# Altium footprint library Analog Devices Interface and Isolation Digital Isolators.PcbLib: 21 footprints (part 1 of 2)
Each footprint in its own frame and in the unit in brackets; x right, y up, seen from the top. Pads: shape width x height; smd on the part's side, far side on the other; paste and mask are expansions set on the pad; w line width, h text height; cw(c..) or ccw(c..) is an arc to the next point about the centre after c.
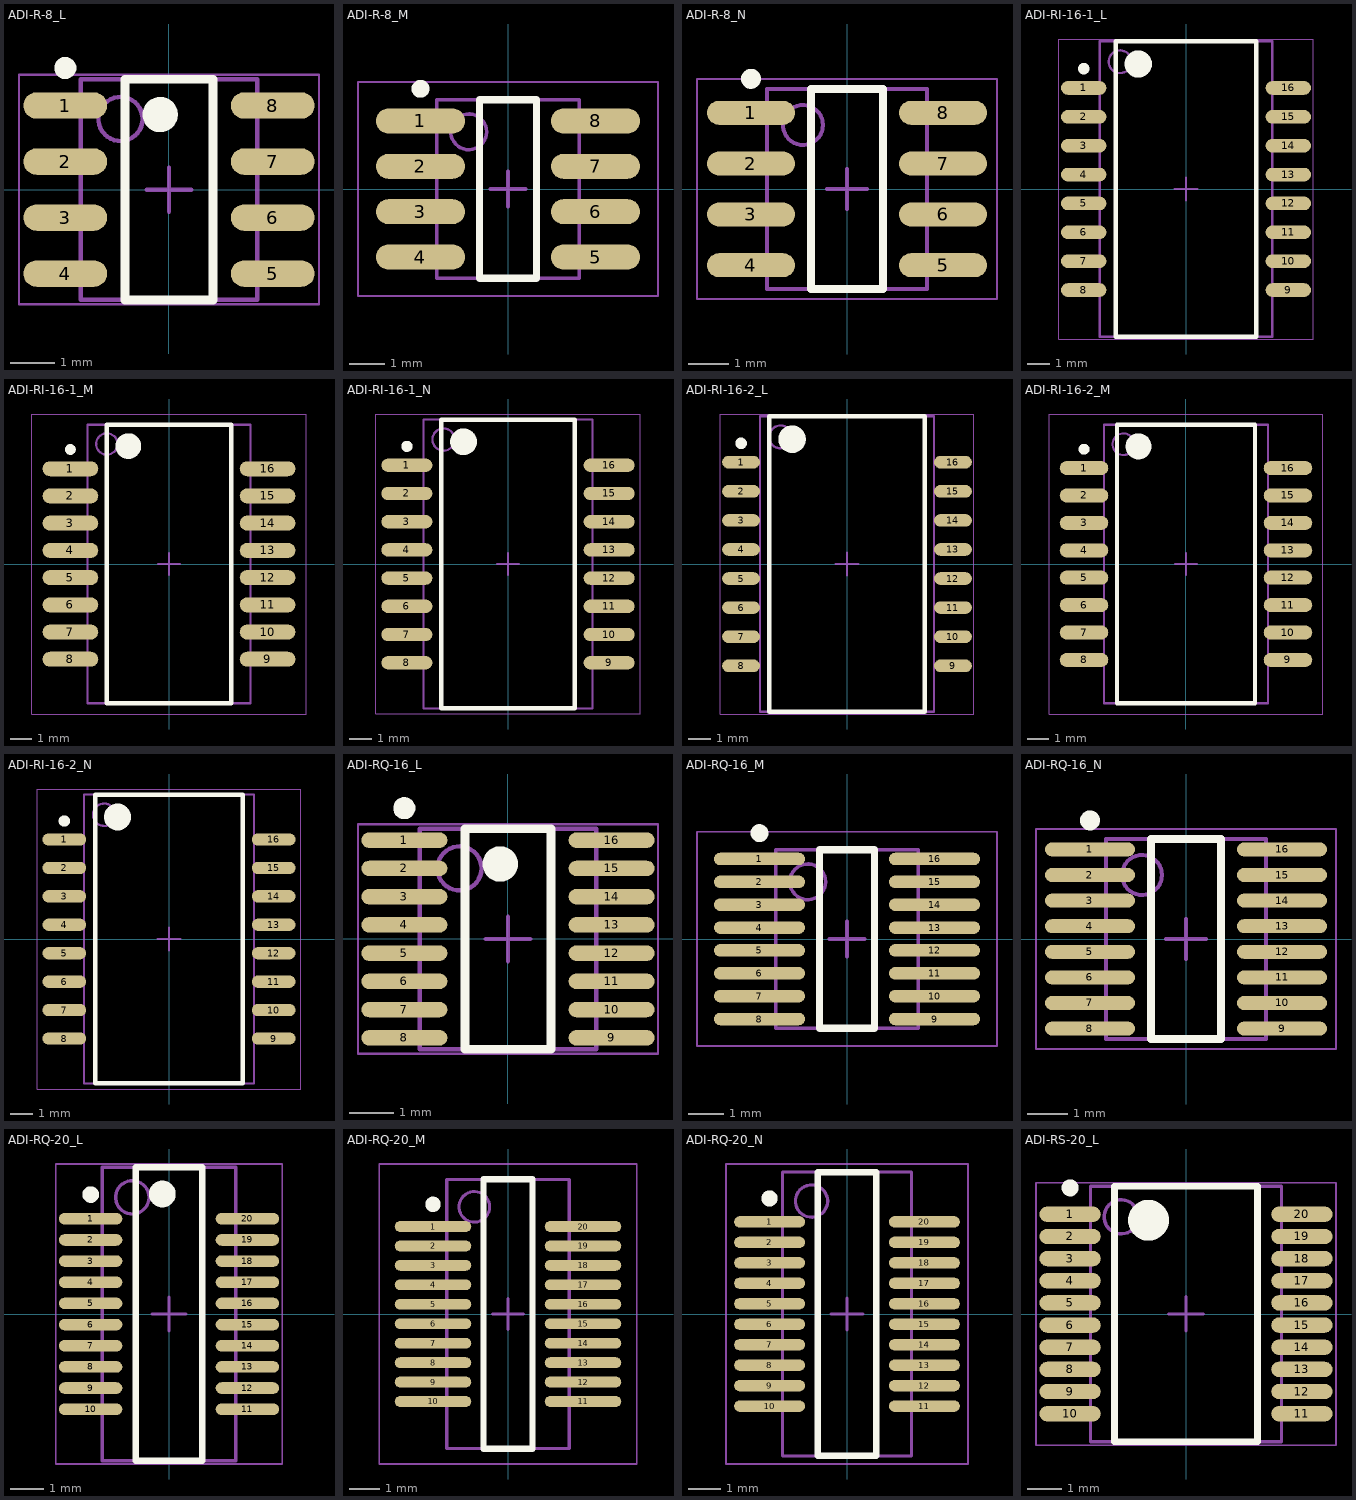
[diagram p0: the footprints below, top view; thin cyan lines are the x and y axes]

## ADI-R-8_L [mm] "SOIC, 8-Leads, Body 4.9x3.9mm, Pitch 1.27mm, IPC High Density"
height 1.75
pads (8):
  oval 1.9x0.6 smd: 1(-2.35,1.905) 2(-2.35,0.635) 3(-2.35,-0.635) 4(-2.35,-1.905) 5(2.35,-1.905) 6(2.35,-0.635) 7(2.35,0.635) 8(2.35,1.905)
Top Overlay:
  circle w0.4: c-0.2,1.7 r0.2
  circle w0.25: c-2.35,2.755 r0.125
  lines w0.2: -1,-2.5 1,-2.5 1,2.5 -1,2.5 -1,-2.5
Mechanical 13:
  circle w0.1: c-1.1,1.6 r0.5
  lines w0.1: -2,-2.5 2,-2.5 2,2.5 -2,2.5 -2,-2.5
Mechanical 15:
  lines w0.05: -3.4,-2.6 3.4,-2.6 3.4,2.6 -3.4,2.6 -3.4,-2.6
  lines w0.1: -0.5,0 0.5,0 ; 0,-0.5 0,0.5
3D body: height 1.75, standoff 0.1, extent -2,-2.5 2,2.5

## ADI-R-8_M [mm] "SOIC, 8-Leads, Body 4.9x3.9mm, Pitch 1.27mm, IPC Low Density"
height 1.75
pads (8):
  oval 2.5x0.7 smd: 1(-2.45,1.905) 2(-2.45,0.635) 3(-2.45,-0.635) 4(-2.45,-1.905) 5(2.45,-1.905) 6(2.45,-0.635) 7(2.45,0.635) 8(2.45,1.905)
Top Overlay:
  circle w0.25: c-2.45,2.805 r0.125
  lines w0.2: -0.8,-2.5 -0.8,2.5 0.8,2.5 0.8,-2.5 -0.8,-2.5
Mechanical 13:
  circle w0.1: c-1.1,1.6 r0.5
  lines w0.1: -2,-2.5 -2,2.5 2,2.5 2,-2.5 -2,-2.5
Mechanical 15:
  lines w0.05: -4.2,-3 -4.2,3 4.2,3 4.2,-3 -4.2,-3
  lines w0.1: -0.5,0 0.5,0 ; 0,-0.5 0,0.5
3D body: height 1.75, standoff 0.1, extent -2,-2.5 2,2.5

## ADI-R-8_N [mm] "SOIC, 8-Leads, Body 4.9x3.9mm, Pitch 1.27mm, IPC Medium Density"
height 1.75
pads (8):
  oval 2.2x0.6 smd: 1(-2.4,1.905) 2(-2.4,0.635) 3(-2.4,-0.635) 4(-2.4,-1.905) 5(2.4,-1.905) 6(2.4,-0.635) 7(2.4,0.635) 8(2.4,1.905)
Top Overlay:
  circle w0.25: c-2.4,2.755 r0.125
  lines w0.2: -0.9,-2.5 -0.9,2.5 0.9,2.5 0.9,-2.5 -0.9,-2.5
Mechanical 13:
  circle w0.1: c-1.1,1.6 r0.5
  lines w0.1: -2,-2.5 -2,2.5 2,2.5 2,-2.5 -2,-2.5
Mechanical 15:
  lines w0.05: -3.75,-2.75 -3.75,2.75 3.75,2.75 3.75,-2.75 -3.75,-2.75
  lines w0.1: -0.5,0 0.5,0 ; 0,-0.5 0,0.5
3D body: height 1.65, standoff 0, extent -2,-2.5 2,2.5

## ADI-RI-16-1_L [mm] "SOIC, 16-Leads, Body 12.8x7.5mm, Pitch 1.27mm, IPC High Density"
height 2.65
pads (16):
  oval 2x0.6 smd: 1(-4.5,4.445) 2(-4.5,3.175) 3(-4.5,1.905) 4(-4.5,0.635) 5(-4.5,-0.635) 6(-4.5,-1.905) 7(-4.5,-3.175) 8(-4.5,-4.445) 9(4.5,-4.445) 10(4.5,-3.175) 11(4.5,-1.905) 12(4.5,-0.635) 13(4.5,0.635) 14(4.5,1.905) 15(4.5,3.175) 16(4.5,4.445)
Top Overlay:
  circle w0.25: c-4.5,5.295 r0.125
  circle w0.6: c-2.1,5.5 r0.3
  lines w0.2: -3.1,-6.5 -3.1,6.5 3.1,6.5 3.1,-6.5 -3.1,-6.5
Mechanical 13:
  circle w0.1: c-2.9,5.6 r0.5
  lines w0.1: -3.8,-6.5 -3.8,6.5 3.8,6.5 3.8,-6.5 -3.8,-6.5
Mechanical 15:
  lines w0.05: -5.6,-6.6 -5.6,6.6 5.6,6.6 5.6,-6.6 -5.6,-6.6
  lines w0.1: -0.5,0 0.5,0 ; 0,-0.5 0,0.5
3D body: height 2.65, standoff 0.1, extent -3.8,-6.5 3.8,6.5

## ADI-RI-16-1_M [mm] "SOIC, 16-Leads, Body 12.8x7.5mm, Pitch 1.27mm, IPC Low Density"
height 2.65
pads (16):
  oval 2.6x0.7 smd: 1(-4.6,4.445) 2(-4.6,3.175) 3(-4.6,1.905) 4(-4.6,0.635) 5(-4.6,-0.635) 6(-4.6,-1.905) 7(-4.6,-3.175) 8(-4.6,-4.445) 9(4.6,-4.445) 10(4.6,-3.175) 11(4.6,-1.905) 12(4.6,-0.635) 13(4.6,0.635) 14(4.6,1.905) 15(4.6,3.175) 16(4.6,4.445)
Top Overlay:
  circle w0.25: c-4.6,5.345 r0.125
  circle w0.6: c-1.9,5.5 r0.3
  lines w0.2: -2.9,-6.5 -2.9,6.5 2.9,6.5 2.9,-6.5 -2.9,-6.5
Mechanical 13:
  circle w0.1: c-2.9,5.6 r0.5
  lines w0.1: -3.8,-6.5 -3.8,6.5 3.8,6.5 3.8,-6.5 -3.8,-6.5
Mechanical 15:
  lines w0.05: -6.4,-7 -6.4,7 6.4,7 6.4,-7 -6.4,-7
  lines w0.1: -0.5,0 0.5,0 ; 0,-0.5 0,0.5
3D body: height 2.65, standoff 0.1, extent -3.8,-6.5 3.8,6.5

## ADI-RI-16-1_N [mm] "SOIC, 16-Leads, Body 12.8x7.5mm, Pitch 1.27mm, IPC Medium Density"
height 2.65
pads (16):
  oval 2.3x0.6 smd: 1(-4.55,4.445) 2(-4.55,3.175) 3(-4.55,1.905) 4(-4.55,0.635) 5(-4.55,-0.635) 6(-4.55,-1.905) 7(-4.55,-3.175) 8(-4.55,-4.445) 9(4.55,-4.445) 10(4.55,-3.175) 11(4.55,-1.905) 12(4.55,-0.635) 13(4.55,0.635) 14(4.55,1.905) 15(4.55,3.175) 16(4.55,4.445)
Top Overlay:
  circle w0.25: c-4.55,5.295 r0.125
  circle w0.6: c-2,5.5 r0.3
  lines w0.2: -3,-6.5 -3,6.5 3,6.5 3,-6.5 -3,-6.5
Mechanical 13:
  circle w0.1: c-2.9,5.6 r0.5
  lines w0.1: -3.8,-6.5 -3.8,6.5 3.8,6.5 3.8,-6.5 -3.8,-6.5
Mechanical 15:
  lines w0.05: -5.95,-6.75 -5.95,6.75 5.95,6.75 5.95,-6.75 -5.95,-6.75
  lines w0.1: -0.5,0 0.5,0 ; 0,-0.5 0,0.5
3D body: height 2.65, standoff 0.1, extent -3.8,-6.5 3.8,6.5

## ADI-RI-16-2_L [mm] "SOIC, 16-Leads, Body 12.75x7.5mm, Pitch 1.27mm, IPC High Density"
height 2.64
pads (16):
  oval 1.65x0.55 smd: 1(-4.625,4.445) 2(-4.625,3.175) 3(-4.625,1.905) 4(-4.625,0.635) 5(-4.625,-0.635) 6(-4.625,-1.905) 7(-4.625,-3.175) 8(-4.625,-4.445) 9(4.625,-4.445) 10(4.625,-3.175) 11(4.625,-1.905) 12(4.625,-0.635) 13(4.625,0.635) 14(4.625,1.905) 15(4.625,3.175) 16(4.625,4.445)
Top Overlay:
  circle w0.25: c-4.625,5.27 r0.125
  circle w0.6: c-2.4,5.45 r0.3
  lines w0.2: -3.4,-6.45 -3.4,6.45 3.4,6.45 3.4,-6.45 -3.4,-6.45
Mechanical 13:
  circle w0.1: c-2.9,5.55 r0.5
  lines w0.1: -3.8,-6.45 -3.8,6.45 3.8,6.45 3.8,-6.45 -3.8,-6.45
Mechanical 15:
  lines w0.05: -5.525,-6.55 -5.525,6.55 5.525,6.55 5.525,-6.55 -5.525,-6.55
  lines w0.1: -0.5,0 0.5,0 ; 0,-0.5 0,0.5
3D body: height 2.64, standoff 0.1, extent -3.8,-6.45 3.8,6.45

## ADI-RI-16-2_M [mm] "SOIC, 16-Leads, Body 12.75x7.5mm, Pitch 1.27mm, IPC Low Density"
height 2.64
pads (16):
  oval 2.25x0.65 smd: 1(-4.725,4.445) 2(-4.725,3.175) 3(-4.725,1.905) 4(-4.725,0.635) 5(-4.725,-0.635) 6(-4.725,-1.905) 7(-4.725,-3.175) 8(-4.725,-4.445) 9(4.725,-4.445) 10(4.725,-3.175) 11(4.725,-1.905) 12(4.725,-0.635) 13(4.725,0.635) 14(4.725,1.905) 15(4.725,3.175) 16(4.725,4.445)
Top Overlay:
  circle w0.25: c-4.725,5.32 r0.125
  circle w0.6: c-2.2,5.45 r0.3
  lines w0.2: -3.2,-6.45 -3.2,6.45 3.2,6.45 3.2,-6.45 -3.2,-6.45
Mechanical 13:
  circle w0.1: c-2.9,5.55 r0.5
  lines w0.1: -3.8,-6.45 -3.8,6.45 3.8,6.45 3.8,-6.45 -3.8,-6.45
Mechanical 15:
  lines w0.05: -6.325,-6.95 -6.325,6.95 6.325,6.95 6.325,-6.95 -6.325,-6.95
  lines w0.1: -0.5,0 0.5,0 ; 0,-0.5 0,0.5
3D body: height 2.64, standoff 0.1, extent -3.8,-6.45 3.8,6.45

## ADI-RI-16-2_N [mm] "SOIC, 16-Leads, Body 12.75x7.5mm, Pitch 1.27mm, IPC Medium Density"
height 2.64
pads (16):
  oval 1.95x0.55 smd: 1(-4.675,4.445) 2(-4.675,3.175) 3(-4.675,1.905) 4(-4.675,0.635) 5(-4.675,-0.635) 6(-4.675,-1.905) 7(-4.675,-3.175) 8(-4.675,-4.445) 9(4.675,-4.445) 10(4.675,-3.175) 11(4.675,-1.905) 12(4.675,-0.635) 13(4.675,0.635) 14(4.675,1.905) 15(4.675,3.175) 16(4.675,4.445)
Top Overlay:
  circle w0.25: c-4.675,5.27 r0.125
  circle w0.6: c-2.3,5.45 r0.3
  lines w0.2: -3.3,-6.45 -3.3,6.45 3.3,6.45 3.3,-6.45 -3.3,-6.45
Mechanical 13:
  circle w0.1: c-2.9,5.55 r0.5
  lines w0.1: -3.8,-6.45 -3.8,6.45 3.8,6.45 3.8,-6.45 -3.8,-6.45
Mechanical 15:
  lines w0.05: -5.875,-6.7 -5.875,6.7 5.875,6.7 5.875,-6.7 -5.875,-6.7
  lines w0.1: -0.5,0 0.5,0 ; 0,-0.5 0,0.5
3D body: height 2.64, standoff 0.1, extent -3.8,-6.45 3.8,6.45

## ADI-RQ-16_L [mm] "SOP, 16-Leads, Body 4.9x3.9mm, Pitch 0.64mm, IPC High Density"
height 1.75
pads (16):
  oval 1.95x0.35 smd: 1(-2.35,2.24) 2(-2.35,1.6) 3(-2.35,0.96) 4(-2.35,0.32) 5(-2.35,-0.32) 6(-2.35,-0.96) 7(-2.35,-1.6) 8(-2.35,-2.24) 9(2.35,-2.24) 10(2.35,-1.6) 11(2.35,-0.96) 12(2.35,-0.32) 13(2.35,0.32) 14(2.35,0.96) 15(2.35,1.6) 16(2.35,2.24)
Top Overlay:
  circle w0.25: c-2.35,2.965 r0.125
  circle w0.4: c-0.175,1.7 r0.2
  lines w0.2: -0.975,-2.5 -0.975,2.5 0.975,2.5 0.975,-2.5 -0.975,-2.5
Mechanical 13:
  circle w0.1: c-1.1,1.6 r0.5
  lines w0.1: -2,-2.5 -2,2.5 2,2.5 2,-2.5 -2,-2.5
Mechanical 15:
  lines w0.05: -3.4,-2.6 -3.4,2.6 3.4,2.6 3.4,-2.6 -3.4,-2.6
  lines w0.1: -0.5,0 0.5,0 ; 0,-0.5 0,0.5
3D body: height 1.75, standoff 0.1, extent -2,-2.5 2,2.5

## ADI-RQ-16_M [mm] "SOP, 16-Leads, Body 4.9x3.9mm, Pitch 0.64mm, IPC Low Density"
height 1.75
pads (16):
  oval 2.55x0.35 smd: 1(-2.45,2.24) 2(-2.45,1.6) 3(-2.45,0.96) 4(-2.45,0.32) 5(-2.45,-0.32) 6(-2.45,-0.96) 7(-2.45,-1.6) 8(-2.45,-2.24) 9(2.45,-2.24) 10(2.45,-1.6) 11(2.45,-0.96) 12(2.45,-0.32) 13(2.45,0.32) 14(2.45,0.96) 15(2.45,1.6) 16(2.45,2.24)
Top Overlay:
  circle w0.25: c-2.45,2.965 r0.125
  lines w0.2: -0.775,-2.5 -0.775,2.5 0.775,2.5 0.775,-2.5 -0.775,-2.5
Mechanical 13:
  circle w0.1: c-1.1,1.6 r0.5
  lines w0.1: -2,-2.5 -2,2.5 2,2.5 2,-2.5 -2,-2.5
Mechanical 15:
  lines w0.05: -4.2,-3 -4.2,3 4.2,3 4.2,-3 -4.2,-3
  lines w0.1: -0.5,0 0.5,0 ; 0,-0.5 0,0.5
3D body: height 1.75, standoff 0.1, extent -2,-2.5 2,2.5

## ADI-RQ-16_N [mm] "SOP, 16-Leads, Body 4.9x3.9mm, Pitch 0.64mm, IPC Medium Density"
height 1.75
pads (16):
  oval 2.25x0.35 smd: 1(-2.4,2.24) 2(-2.4,1.6) 3(-2.4,0.96) 4(-2.4,0.32) 5(-2.4,-0.32) 6(-2.4,-0.96) 7(-2.4,-1.6) 8(-2.4,-2.24) 9(2.4,-2.24) 10(2.4,-1.6) 11(2.4,-0.96) 12(2.4,-0.32) 13(2.4,0.32) 14(2.4,0.96) 15(2.4,1.6) 16(2.4,2.24)
Top Overlay:
  circle w0.25: c-2.4,2.965 r0.125
  lines w0.2: -0.875,-2.5 0.875,-2.5 0.875,2.5 -0.875,2.5 -0.875,-2.5
Mechanical 13:
  circle w0.1: c-1.1,1.6 r0.5
  lines w0.1: -2,-2.5 2,-2.5 2,2.5 -2,2.5 -2,-2.5
Mechanical 15:
  lines w0.05: -3.75,-2.75 3.75,-2.75 3.75,2.75 -3.75,2.75 -3.75,-2.75
  lines w0.1: -0.5,0 0.5,0 ; 0,-0.5 0,0.5
3D body: height 1.75, standoff 0.1, extent -2,-2.5 2,2.5

## ADI-RQ-20_L [mm] "SOP, 20-Leads, Body 8.66x3.9mm, Pitch 0.635mm, IPC High Density"
height 1.76
pads (20):
  oval 1.9x0.35 smd: 1(-2.35,2.857) 2(-2.35,2.222) 3(-2.35,1.587) 4(-2.35,0.953) 5(-2.35,0.318) 6(-2.35,-0.318) 7(-2.35,-0.953) 8(-2.35,-1.587) 9(-2.35,-2.222) 10(-2.35,-2.857) 11(2.35,-2.857) 12(2.35,-2.222) 13(2.35,-1.587) 14(2.35,-0.953) 15(2.35,-0.318) 16(2.35,0.318) 17(2.35,0.953) 18(2.35,1.587) 19(2.35,2.222) 20(2.35,2.857)
Top Overlay:
  circle w0.25: c-2.35,3.582 r0.125
  circle w0.4: c-0.2,3.6 r0.2
  lines w0.2: -1,-4.4 -1,4.4 1,4.4 1,-4.4 -1,-4.4
Mechanical 13:
  circle w0.1: c-1.1,3.5 r0.5
  lines w0.1: -2,-4.4 -2,4.4 2,4.4 2,-4.4 -2,-4.4
Mechanical 15:
  lines w0.05: -3.4,-4.5 -3.4,4.5 3.4,4.5 3.4,-4.5 -3.4,-4.5
  lines w0.1: -0.5,0 0.5,0 ; 0,-0.5 0,0.5
3D body: height 1.76, standoff 0.1, extent -2,-4.4 2,4.4

## ADI-RQ-20_M [mm] "SOP, 20-Leads, Body 8.66x3.9mm, Pitch 0.635mm, IPC Low Density"
height 1.76
pads (20):
  oval 2.5x0.35 smd: 1(-2.45,2.857) 2(-2.45,2.222) 3(-2.45,1.587) 4(-2.45,0.953) 5(-2.45,0.318) 6(-2.45,-0.318) 7(-2.45,-0.953) 8(-2.45,-1.587) 9(-2.45,-2.222) 10(-2.45,-2.857) 11(2.45,-2.857) 12(2.45,-2.222) 13(2.45,-1.587) 14(2.45,-0.953) 15(2.45,-0.318) 16(2.45,0.318) 17(2.45,0.953) 18(2.45,1.587) 19(2.45,2.222) 20(2.45,2.857)
Top Overlay:
  circle w0.25: c-2.45,3.582 r0.125
  lines w0.2: -0.8,-4.4 -0.8,4.4 0.8,4.4 0.8,-4.4 -0.8,-4.4
Mechanical 13:
  circle w0.1: c-1.1,3.5 r0.5
  lines w0.1: -2,-4.4 -2,4.4 2,4.4 2,-4.4 -2,-4.4
Mechanical 15:
  lines w0.05: -4.2,-4.9 -4.2,4.9 4.2,4.9 4.2,-4.9 -4.2,-4.9
  lines w0.1: -0.5,0 0.5,0 ; 0,-0.5 0,0.5
3D body: height 1.76, standoff 0.1, extent -2,-4.4 2,4.4

## ADI-RQ-20_N [mm] "SOP, 20-Leads, Body 8.66x3.9mm, Pitch 0.635mm, IPC Medium Density"
height 1.76
pads (20):
  oval 2.2x0.35 smd: 1(-2.4,2.857) 2(-2.4,2.222) 3(-2.4,1.587) 4(-2.4,0.953) 5(-2.4,0.318) 6(-2.4,-0.318) 7(-2.4,-0.953) 8(-2.4,-1.587) 9(-2.4,-2.222) 10(-2.4,-2.857) 11(2.4,-2.857) 12(2.4,-2.222) 13(2.4,-1.587) 14(2.4,-0.953) 15(2.4,-0.318) 16(2.4,0.318) 17(2.4,0.953) 18(2.4,1.587) 19(2.4,2.222) 20(2.4,2.857)
Top Overlay:
  circle w0.25: c-2.4,3.582 r0.125
  lines w0.2: -0.9,-4.4 -0.9,4.4 0.9,4.4 0.9,-4.4 -0.9,-4.4
Mechanical 13:
  circle w0.1: c-1.1,3.5 r0.5
  lines w0.1: -2,-4.4 -2,4.4 2,4.4 2,-4.4 -2,-4.4
Mechanical 15:
  lines w0.05: -3.75,-4.65 -3.75,4.65 3.75,4.65 3.75,-4.65 -3.75,-4.65
  lines w0.1: -0.5,0 0.5,0 ; 0,-0.5 0,0.5
3D body: height 1.76, standoff 0.1, extent -2,-4.4 2,4.4

## ADI-RS-20_L [mm] "SOP, 20-Leads, Body 7.2x5.3mm, Pitch 0.65mm, IPC High Density"
height 2
pads (20):
  oval 1.8x0.45 smd: 1(-3.4,2.925) 2(-3.4,2.275) 3(-3.4,1.625) 4(-3.4,0.975) 5(-3.4,0.325) 6(-3.4,-0.325) 7(-3.4,-0.975) 8(-3.4,-1.625) 9(-3.4,-2.275) 10(-3.4,-2.925) 11(3.4,-2.925) 12(3.4,-2.275) 13(3.4,-1.625) 14(3.4,-0.975) 15(3.4,-0.325) 16(3.4,0.325) 17(3.4,0.975) 18(3.4,1.625) 19(3.4,2.275) 20(3.4,2.925)
Top Overlay:
  circle w0.25: c-3.4,3.7 r0.125
  circle w0.6: c-1.1,2.75 r0.3
  lines w0.2: -2.1,-3.75 -2.1,3.75 2.1,3.75 2.1,-3.75 -2.1,-3.75
Mechanical 13:
  circle w0.1: c-1.9,2.85 r0.5
  lines w0.1: -2.8,-3.75 -2.8,3.75 2.8,3.75 2.8,-3.75 -2.8,-3.75
Mechanical 15:
  lines w0.05: -4.4,-3.85 -4.4,3.85 4.4,3.85 4.4,-3.85 -4.4,-3.85
  lines w0.1: -0.5,0 0.5,0 ; 0,-0.5 0,0.5
3D body: height 2, standoff 0.05, extent -2.8,-3.75 2.8,3.75